# Altium footprint library KK5045-03AG.PcbLib: 1 footprints
Each footprint in its own frame and in the unit in brackets; x right, y up, seen from the top. Pads: shape width x height; smd on the part's side, far side on the other; paste and mask are expansions set on the pad; w line width, h text height; cw(c..) or ccw(c..) is an arc to the next point about the centre after c.
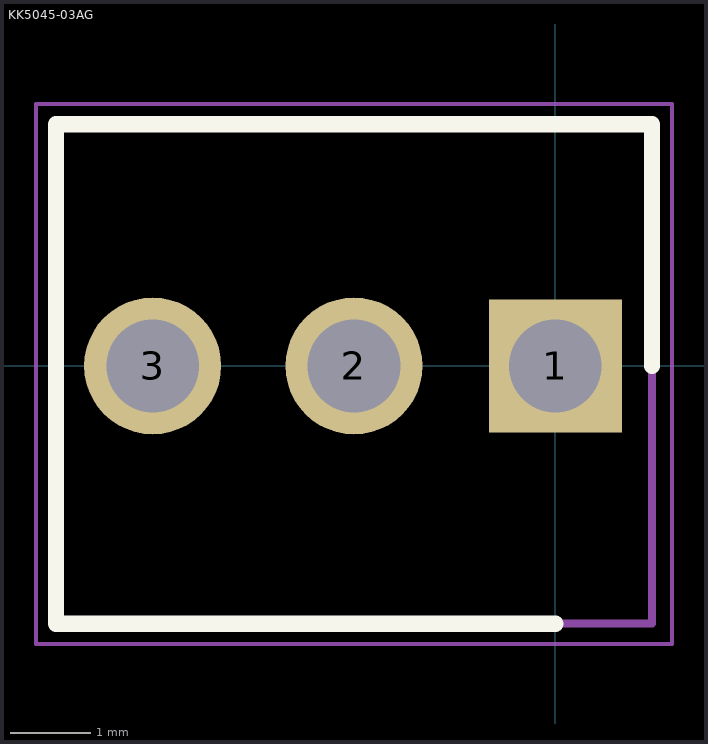
[diagram p0: the footprint, top view; thin cyan lines are the x and y axes]

## KK5045-03AG [mm]
pads (3):
  rect 1.65x1.65 / inner round 1.65 / far side rect 1.65x1.65 hole 1.15: 1(0,0)
  round 1.7 hole 1.15: 2(-2.5,0) 3(-5,0)
Top Overlay:
  lines w0.2: 0,-3.2 -6.2,-3.2 -6.2,3 1.2,3 1.2,0
Mechanical 15:
  lines w0.1: -6.2,-3.2 1.2,-3.2 1.2,3 -6.2,3 -6.2,-3.2
Mechanical 20:
  lines w0.05: -6.45,-3.45 1.45,-3.45 1.45,3.25 -6.45,3.25 -6.45,-3.45
3D body "022111031.stp": height 11.75, standoff -3.35, extent -6,-3.2 1,2.6